# EAGLE library part USB_W_SHIELD (library microbuilder)
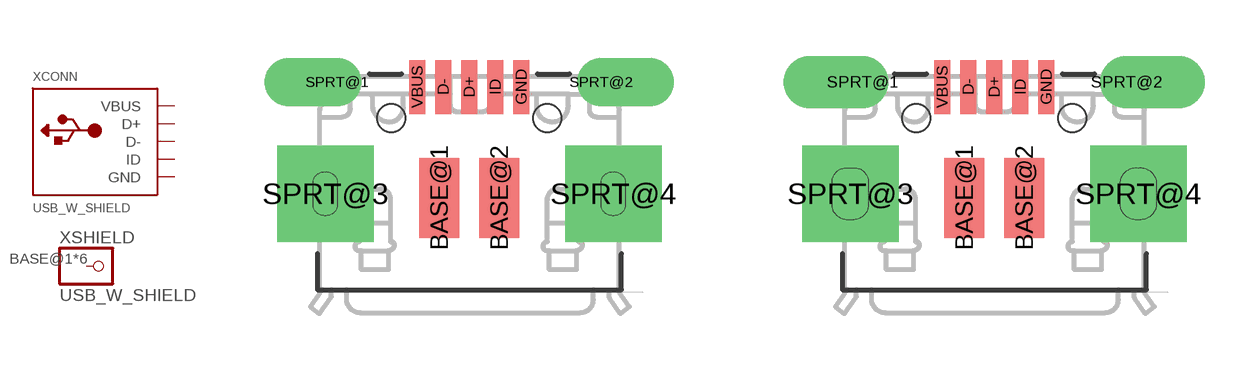
[diagram p0: symbol with the pads of 4UCONN_20329; footprints 4UCONN_20329, 4UCONN_20329_V2]

Designator prefix X; gates CONN=USB SHIELD=PINHD1

## USB_W_SHIELD_20329  [4UCONN_20329]
BASE@1  SHIELD:1  pas
BASE@2  SHIELD:1  pas
D+  CONN:D+
D-  CONN:D-
GND  CONN:GND  pwr
ID  CONN:ID
SPRT@1  SHIELD:1  pas
SPRT@2  SHIELD:1  pas
SPRT@3  SHIELD:1  pas
SPRT@4  SHIELD:1  pas
VBUS  CONN:VBUS  pwr

## USB_W_SHIELD_V2  [4UCONN_20329_V2]
Pads as for 4UCONN_20329

## Footprint 4UCONN_20329 (pad centres in mm)
smd 1 x 2: BASE@1 -0.75,-2; BASE@2 0.75,-2
smd 0.4 x 1.35: D+ 0,0.775; D- -0.65,0.775; GND 1.3,0.775; ID 0.65,0.775; VBUS -1.3,0.775
drill 0.7 offset: SPRT@1 -3.3,0.9; SPRT@2 3.3,0.9
drill 0.6 pad 2.413 square: SPRT@3 -3.6,-1.9; SPRT@4 3.6,-1.9
hole 0.7 at -1.95,0
hole 0.7 at 1.95,0

## Footprint 4UCONN_20329_V2 (pad centres in mm)
smd 1 x 2: BASE@1 -0.75,-2; BASE@2 0.75,-2
smd 0.4 x 1.35: D+ 0,0.775; D- -0.65,0.775; GND 1.3,0.775; ID 0.65,0.775; VBUS -1.3,0.775
drill 0.8 pad 1.143 offset: SPRT@1 -3.3,0.9; SPRT@2 3.3,0.9
drill 0.9 pad 2.413 square: SPRT@3 -3.6,-1.9; SPRT@4 3.6,-1.9
hole 0.7 at -1.95,0
hole 0.7 at 1.95,0